# Altium schematic symbol library AS5047P-ATSM.SchLib: 1 symbol
Pins are listed as number, name and electrical type; pins without a type are passive.

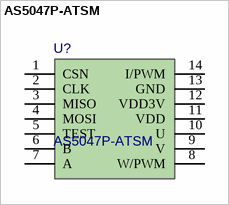
[diagram p0: symbol AS5047P-ATSM]

## AS5047P-ATSM
designator U?
Board Mount Hall Effect / Magnetic Sensors 14 bit core res Up to 28krpm; Manufacturer_Name: ams OSRAM; Geometry.Height: 1.2mm; Mouser Part Number: 985-AS5047P-ATSM; Mouser Price/Stock: https://www.mouser.co.uk/ProductDetail/ams-OSRAM/AS5047P-ATSM?qs=cGEy3R83DS8fzNOVLHtOgg%3D%3D; Manufacturer_Part_Number: AS5047P-ATSM; Datasheet Link: https://datasheet.datasheetarchive.com/originals/distributors/DKDS-7/120640.pdf
footprint SOP65P640X120-14N
pins: 1 CSN, 2 CLK, 3 MISO, 4 MOSI, 5 TEST, 6 B, 7 A, 8 W/PWM, 9 V, 10 U, 11 VDD, 12 VDD3V, 13 GND, 14 I/PWM